# Altium footprint library PCB1_TimerCAR.PcbLib: 16 footprints
Each footprint in its own frame and in the unit in brackets; x right, y up, seen from the top. Pads: shape width x height; smd on the part's side, far side on the other; paste and mask are expansions set on the pad; w line width, h text height; cw(c..) or ccw(c..) is an arc to the next point about the centre after c.
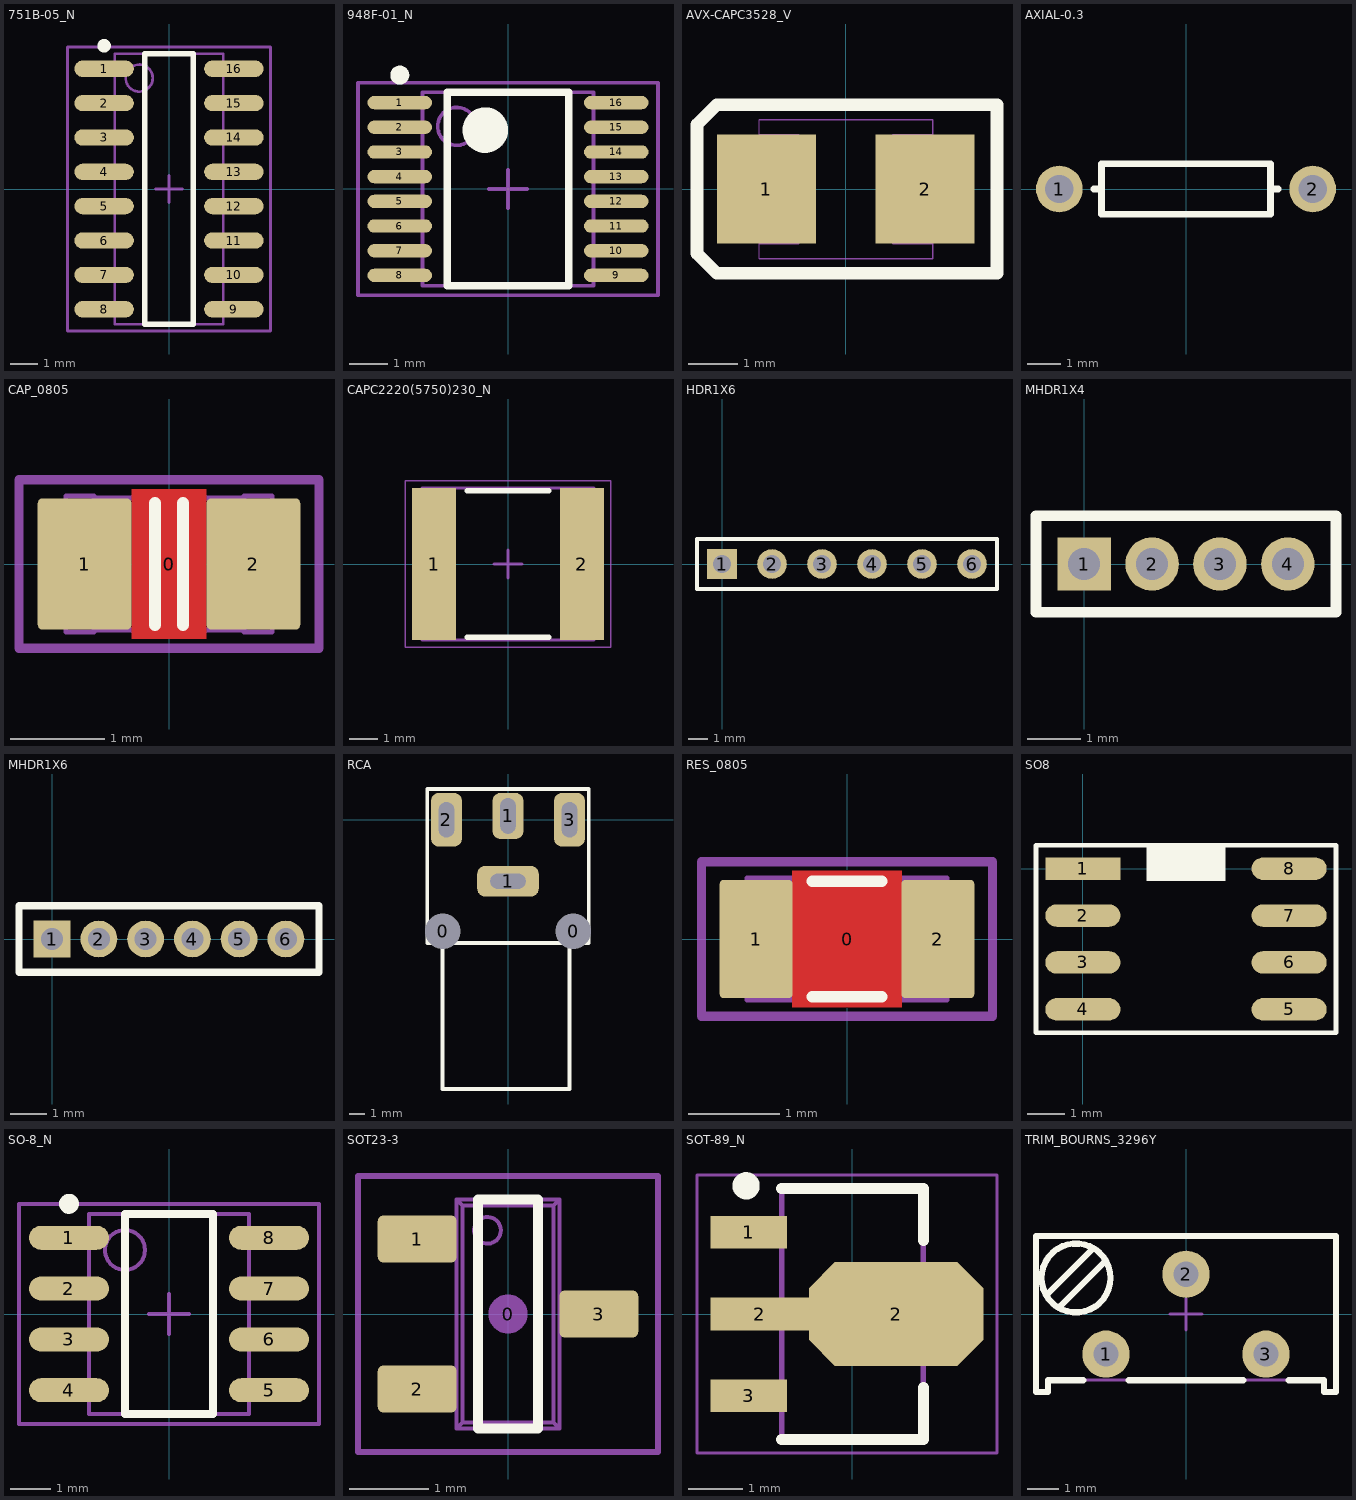
[diagram p0: the footprints below, top view; thin cyan lines are the x and y axes]

## 751B-05_N [mm]
pads (16):
  oval 2.2x0.6 smd: 1(-2.4,4.445) 2(-2.4,3.175) 3(-2.4,1.905) 4(-2.4,0.635) 5(-2.4,-0.635) 6(-2.4,-1.905) 7(-2.4,-3.175) 8(-2.4,-4.445) 9(2.4,-4.445) 10(2.4,-3.175) 11(2.4,-1.905) 12(2.4,-0.635) 13(2.4,0.635) 14(2.4,1.905) 15(2.4,3.175) 16(2.4,4.445)
Top Overlay:
  circle w0.25: c-2.4,5.295 r0.125
  lines w0.2: -0.9,-5 0.9,-5 0.9,5 -0.9,5 -0.9,-5
Mechanical 13:
  circle w0.1: c-1.1,4.1 r0.5
  lines w0.1: -2,-5 2,-5 2,5 -2,5 -2,-5
Mechanical 15:
  lines w0.1: -0.5,0 0.5,0 ; 0,-0.5 0,0.5 ; -3.75,-5.25 3.75,-5.25 3.75,5.25 -3.75,5.25 -3.75,-5.25
3D body: height 1.75, standoff 0, extent -2,-5 2,5

## 948F-01_N [mm]
pads (16):
  oval 1.7x0.35 smd: 1(-2.85,2.275) 2(-2.85,1.625) 3(-2.85,0.975) 4(-2.85,0.325) 5(-2.85,-0.325) 6(-2.85,-0.975) 7(-2.85,-1.625) 8(-2.85,-2.275) 9(2.85,-2.275) 10(2.85,-1.625) 11(2.85,-0.975) 12(2.85,-0.325) 13(2.85,0.325) 14(2.85,0.975) 15(2.85,1.625) 16(2.85,2.275)
Top Overlay:
  circle w0.6: c-0.6,1.55 r0.3
  circle w0.25: c-2.85,3 r0.125
  lines w0.2: -1.6,-2.55 1.6,-2.55 1.6,2.55 -1.6,2.55 -1.6,-2.55
Mechanical 13:
  circle w0.1: c-1.35,1.65 r0.5
  lines w0.1: -2.25,-2.55 2.25,-2.55 2.25,2.55 -2.25,2.55 -2.25,-2.55
Mechanical 15:
  lines w0.1: -0.5,0 0.5,0 ; 0,-0.5 0,0.5 ; -3.95,-2.8 3.95,-2.8 3.95,2.8 -3.95,2.8 -3.95,-2.8
3D body: height 1.2, standoff 0, extent -2.25,-2.55 2.25,2.55

## AVX-CAPC3528_V [mm]
pads (2):
  rect 2x2.2 smd: 1(-1.6,0) 2(1.6,0)
Top Overlay:
  lines w0.254: -3,-1.3 -2.6,-1.7 3.05,-1.7 3.05,1.7 -2.6,1.7 -3,1.3 -3,-1.3
Mechanical 7:
  lines w0.025: -1.748,-1.404 1.752,-1.404 1.752,1.396 -1.748,1.396 ; -1.748,-1.104 -0.948,-1.104 -0.948,1.096 -1.748,1.096 ; -1.748,-1.404 -1.748,1.396 ; 1.752,-1.104 0.952,-1.104 0.952,1.096 1.752,1.096
  text ".Designator" at -1.8,1.8 h0.5
  text ".Comment" at -1.7,-2.2 h0.5
3D body: height 0.3, standoff 0, extent -1.793,-0.665 -1.568,0.824
3D body: height 0.3, standoff 0, extent 1.578,-0.658 1.803,0.768
3D body: height 1.9, standoff 0, extent -1.704,-1.539 1.763,1.537

## AXIAL-0.3 [mm]
pads (2):
  round 1.4 hole 0.85: 1(-3.81,0) 2(3.81,0)
Top Overlay:
  lines w0.2: -2.769,0 -2.54,0 ; 2.769,0 2.54,0 ; 2.54,0 2.54,-0.762 -2.54,-0.762 -2.54,0.762 2.54,0.762 2.54,0

## CAP_0805 [mm]
pads (3):
  round 0.254 on Mech14: 0(0,0)
  rrect10% 1x1.4 smd: 1(-0.9,0) 2(0.9,0)
Top Layer:
  pour cut-out: -0.4,0.8 0.4,0.8 0.4,-0.8 -0.4,-0.8
Top Overlay:
  lines w0.127: -0.15,-0.651 -0.15,0.651 ; 0.15,-0.651 0.15,0.651
Mechanical 13:
  lines w0.05: -0.8,-0.705 0.8,-0.705 ; -0.8,0.705 0.8,0.705 ; -1.1,-0.725 -0.8,-0.725 -0.8,0.725 -1.1,0.725 -1.1,-0.725 ; 0.8,-0.725 0.8,0.725 1.1,0.725 1.1,-0.725 0.8,-0.725
Mechanical 14:
  lines w0.1: -1.6,-0.9 1.6,-0.9 1.6,0.9 -1.6,0.9 -1.6,-0.9
3D body "CAP_0805.STEP": height 1.34, standoff -0.01, extent -1.1,-0.725 1.1,0.725

## CAPC2220(5750)230_N [mm]
pads (2):
  rect 1.55x5.4 smd: 1(-2.625,0) 2(2.625,0)
Top Overlay:
  lines w0.2: -1.45,-2.6 1.45,-2.6 ; -1.45,2.6 1.45,2.6
Mechanical 13:
  lines w0.1: -3.05,-2.7 -3.05,2.7 3.05,2.7 3.05,-2.7 -3.05,-2.7
Mechanical 15:
  lines w0.05: -3.65,-2.95 -3.65,2.95 3.65,2.95 3.65,-2.95 -3.65,-2.95
  lines w0.1: -0.5,0 0.5,0 ; 0,-0.5 0,0.5
3D body: height 2.3, standoff 0, extent -2.45,-2.7 2.45,2.7
3D body: height 2.3, standoff 0, extent -3.05,-2.7 -2.45,2.7
3D body: height 2.3, standoff 0, extent 2.45,-2.7 3.05,2.7

## HDR1X6 [mm]
pads (6):
  rect 1.5x1.5 hole 0.9: 1(0,0)
  round 1.5 hole 0.9: 2(2.54,0) 3(5.08,0) 4(7.62,0) 5(10.16,0) 6(12.7,0)
Top Overlay:
  lines w0.2: -1.27,-1.27 -1.27,1.27 13.97,1.27 13.97,-1.27 -1.27,-1.27

## MHDR1X4 [mm]
pads (4):
  rect 1x1 hole 0.6: 1(0,0)
  round 1 hole 0.6: 2(1.27,0) 3(2.54,0) 4(3.81,0)
Top Overlay:
  lines w0.2: -0.9,-0.9 -0.9,0.9 4.71,0.9 4.71,-0.9 -0.9,-0.9

## MHDR1X6 [mm]
pads (6):
  rect 1x1 hole 0.6: 1(0,0)
  round 1 hole 0.6: 2(1.27,0) 3(2.54,0) 4(3.81,0) 5(5.08,0) 6(6.35,0)
Top Overlay:
  lines w0.2: -0.9,-0.9 7.25,-0.9 7.25,0.9 -0.9,0.9 -0.9,-0.9

## RCA [mm]
pads (6):
  round 1.524 hole 2.3: 0(-4.25,-7.25) 0(4.25,-7.25)
  rrect50% 4x2 hole 1 slot 2.3 at 0 deg: 1(0,-4)
  rrect50% 2x3 hole 1 slot 2.3 at 90 deg: 1(0,0.25)
  rrect50% 2x3.5 hole 1 slot 2.3 at 90 deg: 2(-4,0) 3(4,0)
Top Overlay:
  lines w0.254: -4.25,-8 -4.25,-17.5 4,-17.5 4,-8 ; -5.25,-8 -5.25,2 5.25,2 5.25,-8 -5.25,-8
3D body "rcj-041.stp": height 12, standoff -3.5, extent -5,-17.5 5,2

## RES_0805 [mm]
pads (3):
  round 0.254 on Mech14: 0(0,0)
  rrect10% 0.8x1.3 smd: 1(-1,0) 2(1,0)
Top Layer:
  pour cut-out: -0.6,0.75 0.6,0.75 0.6,-0.75 -0.6,-0.75
Top Overlay:
  lines w0.127: -0.381,-0.635 0.381,-0.635 ; -0.381,0.635 0.381,0.635
Mechanical 13:
  lines w0.05: 0.6,-0.674 -0.6,-0.674 ; -0.6,-0.675 -0.6,0.675 -1.1,0.675 -1.1,-0.675 -0.6,-0.675 ; -0.6,-0.674 0.6,-0.674 ; 0.6,-0.675 0.6,0.675 ; 0.6,-0.675 1.1,-0.675 1.1,0.675 0.6,0.675 ; 0.6,0.674 -0.6,0.674 0.6,0.674
Mechanical 14:
  lines w0.1: -1.6,-0.85 1.6,-0.85 1.6,0.85 -1.6,0.85 -1.6,-0.85
3D body "RES 0805 (2012 metric).STEP": height 0.69, standoff -0.01, extent -1.1,-0.675 1.1,0.675

## SO8 [mil]
pads (8):
  rect 80x24 smd: 1(0,0)
  oval 80x24 smd: 2(0,-50) 3(0,-100) 4(0,-150) 5(220,-150) 6(220,-100) 7(220,-50) 8(220,0)
Top Overlay:
  rectangle: 68,-13 152,25
  lines w5: -50,-175 -50,25 270,25 270,-175 -50,-175
3D body "SW3DPS-SO-8-DEFAULT.STEP": height 57, standoff 0, extent -5,-171.5 222.49,21.5

## SO-8_N [mm]
pads (8):
  oval 2x0.6 smd: 1(-2.5,1.905) 2(-2.5,0.635) 3(-2.5,-0.635) 4(-2.5,-1.905) 5(2.5,-1.905) 6(2.5,-0.635) 7(2.5,0.635) 8(2.5,1.905)
Top Overlay:
  circle w0.25: c-2.5,2.755 r0.125
  lines w0.2: -1.1,-2.5 -1.1,2.5 1.1,2.5 1.1,-2.5 -1.1,-2.5
Mechanical 13:
  circle w0.1: c-1.1,1.6 r0.5
  lines w0.1: -2,-2.5 -2,2.5 2,2.5 2,-2.5 -2,-2.5
Mechanical 15:
  lines w0.1: -0.5,0 0.5,0 ; 0,-0.5 0,0.5 ; -3.75,-2.75 -3.75,2.75 3.75,2.75 3.75,-2.75 -3.75,-2.75
3D body: height 1.75, standoff 0, extent -2,-2.5 2,2.5

## SOT23-3 [mm]
pads (4):
  round 0.5 on Mech15: 0(0,0)
  rrect25% 1x0.6 smd: 1(-1.15,0.95) 2(-1.15,-0.95) 3(1.15,0)
Top Overlay:
  lines w0.127: -0.381,-1.45 0.381,-1.45 0.381,1.45 -0.381,1.45 -0.381,-1.45
  text "." at -2.125,0.95 h0.1
Mechanical 13:
  circle w0.05: c-0.26,1.06 r0.169
  lines w0.05: -1.19,-1.19 -1.19,-0.71 ; -1.19,0.71 -1.19,1.19 ; -1.099,-1.19 -1.099,-0.71 ; -1.099,0.71 -1.099,1.19 ; -1.074,-1.19 -1.074,-0.71 ; -1.074,0.71 -1.074,1.19 ; -0.825,-1.19 -0.825,-0.71 ; -0.825,0.71 -0.825,1.19 ; -0.65,-1.19 -1.4,-1.19 -1.4,-0.71 -0.65,-0.71 ; -0.65,0.71 -1.4,0.71 -1.4,1.19 -0.65,1.19 ; 0.65,-0.24 1.4,-0.24 1.4,0.24 0.65,0.24 ; 0.825,-0.24 0.825,0.24 ; 1.074,-0.24 1.074,0.24 ; 1.099,-0.24 1.099,0.24 ; 1.19,-0.24 1.19,0.24 ; -0.65,-1.45 -0.576,-1.376 ; -0.65,-1.45 -0.65,1.45 ; -0.65,-1.45 0.65,-1.45 ; -0.65,1.45 0.65,1.45 ; -0.65,1.45 -0.576,1.376 ; -0.576,-1.376 -0.576,1.376 ; -0.576,-1.376 0.576,-1.376 ; -0.576,1.376 0.576,1.376 ; 0.576,-1.376 0.576,1.376 ; 0.576,-1.376 0.65,-1.45 ; 0.576,1.376 0.65,1.45 ; 0.65,-1.45 0.65,1.45
Mechanical 15:
  lines w0.076: -1.9,-1.75 1.9,-1.75 1.9,1.75 -1.9,1.75 -1.9,-1.75
3D body "SOT23-3.STEP": height 1.29, standoff -0.01, extent -1.4,-1.45 1.4,1.45

## SOT-89_N [mm]
pads (4):
  rect 1.4x0.6 smd: 1(-1.9,1.5) 3(-1.9,-1.5)
  rect 1.8x0.6 smd: 2(-1.7,0)
  oct 3.2x1.9 smd: 2(0.8,0)
Top Overlay:
  circle w0.25: c-1.95,2.35 r0.125
  lines w0.2: -1.3,-2.3 1.3,-2.3 1.3,-1.35 ; -1.3,2.3 1.3,2.3 1.3,1.35
Mechanical 13:
  lines w0.1: -1.3,-2.3 1.3,-2.3 1.3,2.3 -1.3,2.3 -1.3,-2.3
Mechanical 15:
  lines w0.05: -2.85,-2.55 2.65,-2.55 2.65,2.55 -2.85,2.55 -2.85,-2.55
  lines w0.1: -0.5,0 0.5,0 ; 0,-0.5 0,0.5
3D body: height 1.6, standoff 0, extent -1.3,-2.3 1.3,2.3

## TRIM_BOURNS_3296Y [mm]
pads (3):
  round 1.5 hole 0.8: 1(-2.54,-1.27) 2(0,1.27) 3(2.54,-1.27)
Top Overlay:
  circle w0.2: c-3.495,1.15 r1.095
  lines w0.2: -4.442,0.599 -2.944,2.097 ; -4.046,0.203 -2.548,1.701 ; -3.265,-2.095 -4.385,-2.095 -4.385,-2.475 -4.765,-2.475 -4.765,2.485 4.765,2.485 4.765,-2.475 4.385,-2.475 4.385,-2.095 3.265,-2.095 ; -1.815,-2.095 1.815,-2.095
Mechanical 8:
  lines w0.1: -3.04,-1.27 -2.54,-1.27 ; -2.54,-1.77 -2.54,-1.27 ; -2.54,-0.77 -2.54,-1.27 ; -2.04,-1.27 -2.54,-1.27 ; -0.5,0 0,0 ; -0.5,1.27 0,1.27 ; 0,-0.5 0,0 ; 0,0.5 0,0 ; 0,0.77 0,1.27 ; 0,1.77 0,1.27 ; 0.5,0 0,0 ; 0.5,1.27 0,1.27 ; 2.04,-1.27 2.54,-1.27 ; 2.54,-1.77 2.54,-1.27 ; 2.54,-0.77 2.54,-1.27 ; 3.04,-1.27 2.54,-1.27
Mechanical 14:
  circle w0.1: c-3.495,1.15 r1.095
  lines w0.1: -4.442,0.599 -2.944,2.097 ; -4.046,0.203 -2.548,1.701 ; -4.765,-2.475 -4.765,2.485 4.765,2.485 4.765,-2.475 4.385,-2.475 4.385,-2.095 -4.385,-2.095 -4.385,-2.475 -4.765,-2.475
3D body "TRIM_BOURNS_3296Y.stp": height 11.49, standoff -3.42, extent -4.765,-2.475 4.765,2.485